# Altium footprint library SnapEDApcb.PcbLib: 1 footprints
Each footprint in its own frame and in the unit in brackets; x right, y up, seen from the top. Pads: shape width x height; smd on the part's side, far side on the other; paste and mask are expansions set on the pad; w line width, h text height; cw(c..) or ccw(c..) is an arc to the next point about the centre after c.
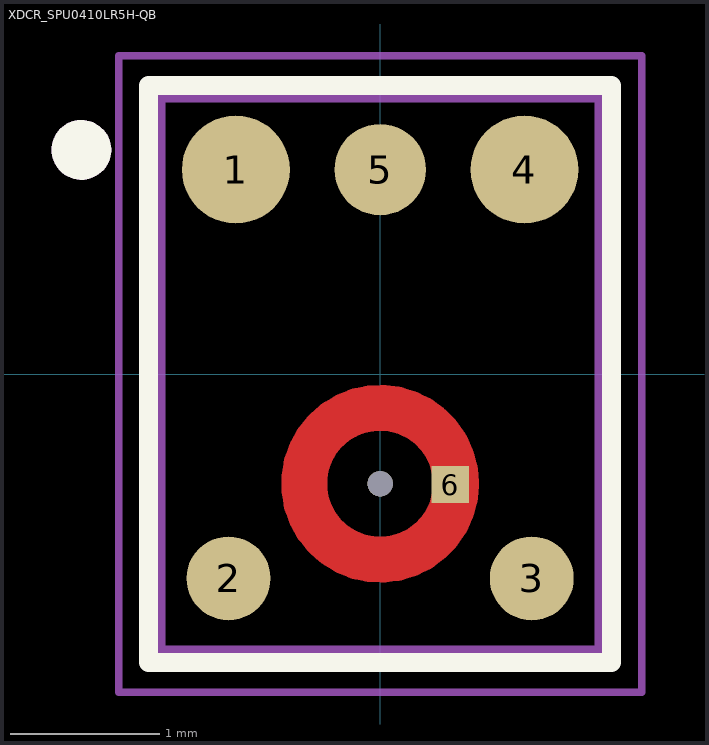
[diagram p0: the footprint, top view; thin cyan lines are the x and y axes]

## XDCR_SPU0410LR5H-QB [mm]
pads (7):
  round 0.723 smd: 1(-0.966,1.369) 4(0.966,1.369)
  round 0.562 smd: 2(-1.015,-1.369) 3(1.015,-1.369)
  round 0.612 smd: 5(0,1.369)
  rect 0.25x0.25 smd paste-1 mask+0: 6(0.47,-0.74)
  round 0.17 hole 0.17 unplated: ""(0,-0.734)
Top Layer:
  circle w0.307: c0,-0.734 r0.508
Top Overlay:
  circle w0.2: c-2,1.5 r0.1
  lines w0.127: -1.55,-1.93 -1.55,1.93 1.55,1.93 1.55,-1.93 -1.55,-1.93
Top Paste:
  drawing of 4 lines, arcs and shapes, not listed
Top Solder:
  lines w0.32: 0.458,-0.74 ccw(c0,-0.734) 0.459,-0.734
Mechanical 13:
  circle w0.2: c-2,1.5 r0.1
  lines w0.127: -1.5,-1.88 1.5,-1.88 1.5,1.88 -1.5,1.88 -1.5,-1.88
Mechanical 15:
  lines w0.05: -1.75,-2.13 1.75,-2.13 1.75,2.13 -1.75,2.13 -1.75,-2.13